# EAGLE library part SENSOR-GAS-MQXXX (library Pygmy)
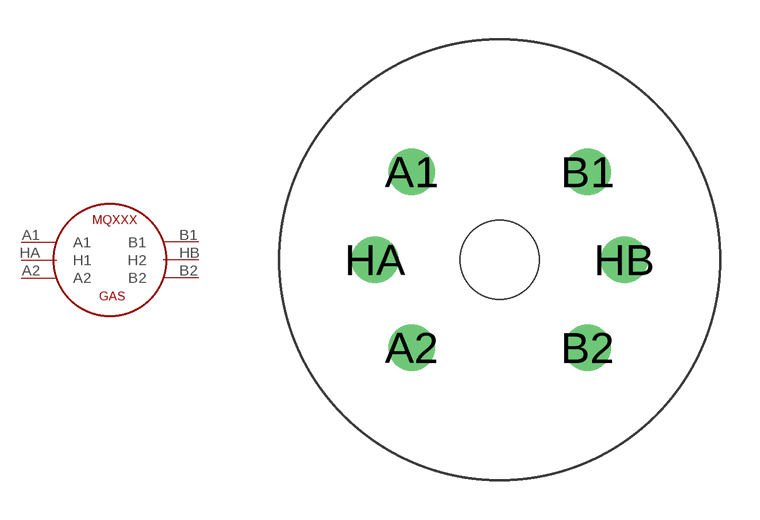
[diagram p45: symbol with the pads of MQ-3; footprint MQ-3]

Designator prefix -

## SENSOR-GAS-MQXXX  [MQ-3]
A1  A1
A2  A2
B1  B1
B2  B2
HA  H1
HB  H2

## Footprint MQ-3 (pad centres in mm)
MQ-3 in Configuration B
drill 1.016 pad 1.778 round: A1 -3.35,3.35; A2 -3.35,-3.35; B1 3.35,3.35; B2 3.35,-3.35; HA -4.75,0; HB 4.75,0
hole 3 at 0,0